# EAGLE library part 2X5 (library weidmuller)
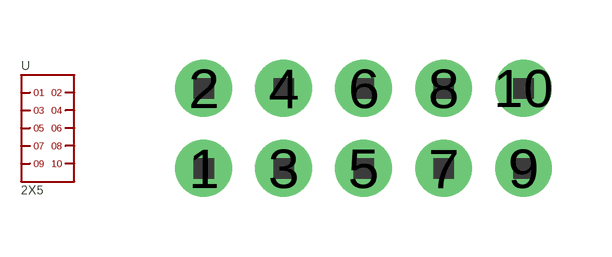
[diagram p5: symbol with the pads of 2X5; footprint 2X5]

Designator prefix -

## 2X5  [2X5]
1  1
2  2
3  3
4  4
5  5
6  6
7  7
8  8
9  9
10  10

## Footprint 2X5 (pad centres in mm)
drill 0.8 pad 1.422: 1 -4,-1; 2 -4,1; 3 -2,-1; 4 -2,1; 5 0,-1; 6 0,1; 7 2,-1; 8 2,1; 9 4,-1; 10 4,1